# EAGLE library part CAY16-102J8LF (library BW-PassiveMechanical)
Resistor Networks & Arrays 1K 5% Convex 8resistors Source: Datasheet <https://componentsearchengine.com/Datasheets/1/CAY16-102J8LF.pdf>
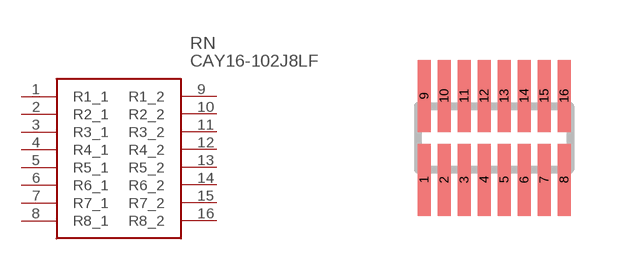
[diagram p3: symbol with the pads of CAY16102J8LF; footprint CAY16102J8LF]

Designator prefix RN

## CAY16-102J8LF (DESCRIPTION: Resistor Networks & Arrays 1K 5% Convex 8resistors; HEIGHT: 0mm; MANUFACTURER_NAME: Bourns; MANUFACTURER_PART_NUMBER: CAY16-102J8LF; MOUSER_PART_NUMBER: 652-CAY16-102J8LF; MOUSER_PRICE-STOCK: https://www.mouser.com/Search/Refine.aspx?Keyword=652-CAY16-102J8LF)  [CAY16102J8LF]
1  R1_1
2  R2_1
3  R3_1
4  R4_1
5  R5_1
6  R6_1
7  R7_1
8  R8_1
9  R1_2
10  R2_2
11  R3_2
12  R4_2
13  R5_2
14  R6_2
15  R7_2
16  R8_2

## Footprint CAY16102J8LF (pad centres in mm)
CAY16-J8
smd 0.325 x 1.8: 1 -1.75,-1.05; 2 -1.25,-1.05; 3 -0.75,-1.05; 4 -0.25,-1.05; 5 0.25,-1.05; 6 0.75,-1.05; 7 1.25,-1.05; 8 1.75,-1.05; 9 -1.75,1.05; 10 -1.25,1.05; 11 -0.75,1.05; 12 -0.25,1.05; 13 0.25,1.05; 14 0.75,1.05; 15 1.25,1.05; 16 1.75,1.05